# EAGLE library part 7_PIN_POGO_CONNECTOR_FEMALE (library thanics_robotics)
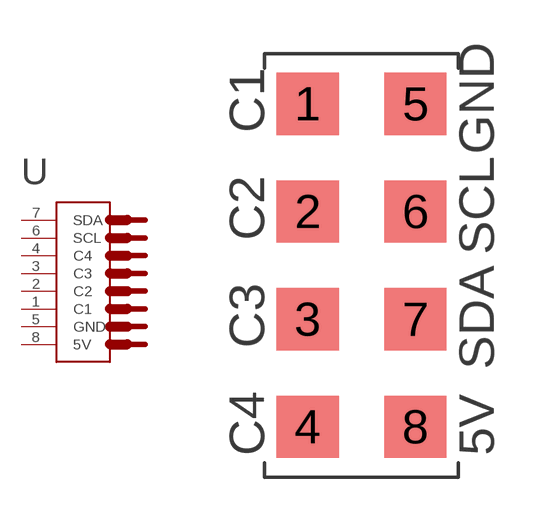
[diagram p4: symbol with the pads of 7_PIN_CONNECTOR_FEMALE; footprint 7_PIN_CONNECTOR_FEMALE]

Designator prefix -

## 7_PIN_POGO_CONNECTOR_FEMALE  [7_PIN_CONNECTOR_FEMALE]
1  C1  pwr
2  C2  pwr
3  C3  pwr
4  C4  pwr
5  GND  pwr
6  SCL
7  SDA
8  5V  pwr

## Footprint 7_PIN_CONNECTOR_FEMALE (pad centres in mm)
smd 2.2 x 2.2: 1 0,6.35; 2 0,2.54; 3 0,-1.27; 4 0,-5.08; 5 3.81,6.35; 6 3.81,2.54; 7 3.81,-1.27; 8 3.81,-5.08